# EAGLE library part MOLEX_78727-0001 (library cTechnologies_connectors)
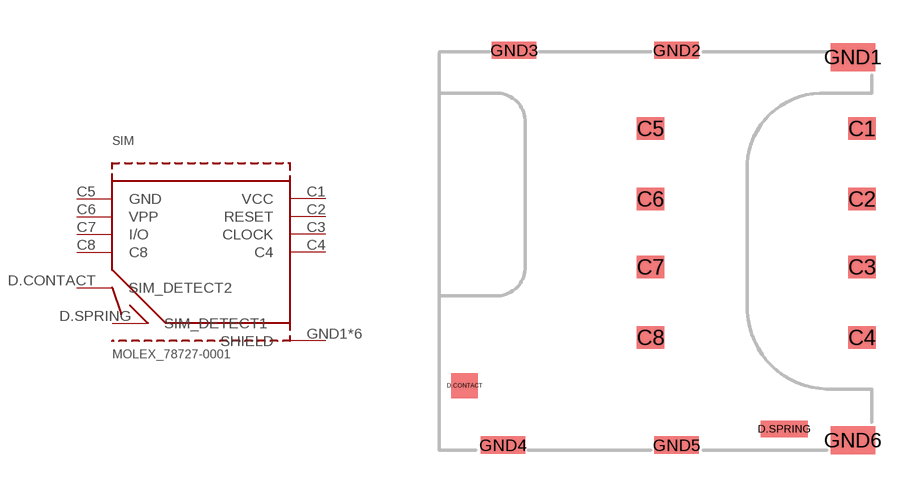
[diagram p7: symbol with the pads of MOLEX_SD_78727-0001; footprint MOLEX_SD_78727-0001]

Designator prefix SIM

## MOLEX_78727-0001  [MOLEX_SD_78727-0001]
C1  VCC
C2  RESET
C3  CLOCK
C4  C4
C5  GND
C6  VPP
C7  I/O
C8  C8
D.CONTACT  SIM_DETECT2
D.SPRING  SIM_DETECT1
GND1  SHIELD
GND2  SHIELD
GND3  SHIELD
GND4  SHIELD
GND5  SHIELD
GND6  SHIELD

## Footprint MOLEX_SD_78727-0001 (pad centres in mm)
smd 1 x 0.8: C1 7.62,4.29; C2 7.62,1.75; C3 7.62,-0.7; C4 7.62,-3.24; C5 0,4.29; C6 0,1.75; C7 0,-0.7; C8 0,-3.24
smd 0.95 x 0.9: D.CONTACT -6.7,-4.98
smd 1.7 x 0.6: D.SPRING 4.82,-6.54
smd 1.6 x 1: GND1 7.29,6.86; GND6 7.29,-6.95
smd 1.6 x 0.62: GND2 0.94,7.11; GND3 -4.92,7.11; GND4 -5.32,-7.12; GND5 0.94,-7.12